# EAGLE library part RTC_MODULE_MYV (library ESP32-DEVKITC-32D)
ESP32-DEVKITC
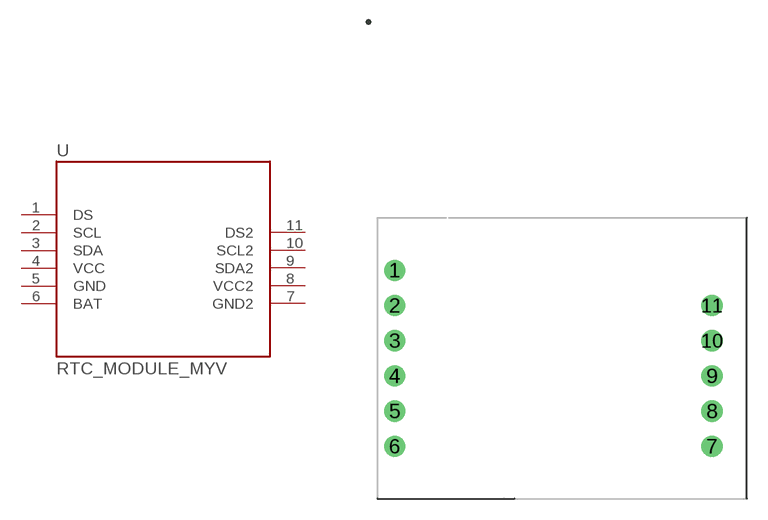
[diagram p2: symbol with the pads of RTC_MYV; footprint RTC_MYV]

Designator prefix U

## RTC_MODULE_MYV (AVAILABILITY: Unavailable; DESCRIPTION: ESP32-DEVKITC; MF: Espressif Systems; MP: ESP32-DevKitC; PACKAGE: None; PRICE: None)  [RTC_MYV]
1  DS
2  SCL
3  SDA
4  VCC
5  GND
6  BAT
7  GND2
8  VCC2
9  SDA2
10  SCL2
11  DS2

## Footprint RTC_MYV (pad centres in mm)
drill 1.02: 1 -12.7,5.07; 2 -12.7,2.53; 3 -12.7,-0.01; 4 -12.7,-2.55; 5 -12.7,-5.09; 6 -12.7,-7.63; 7 10.16,-7.63; 8 10.16,-5.09; 9 10.16,-2.55; 10 10.16,-0.01; 11 10.16,2.53